# Altium footprint library LIB-pcb.PcbLib: 8 footprints
Each footprint in its own frame and in the unit in brackets; x right, y up, seen from the top. Pads: shape width x height; smd on the part's side, far side on the other; paste and mask are expansions set on the pad; w line width, h text height; cw(c..) or ccw(c..) is an arc to the next point about the centre after c.
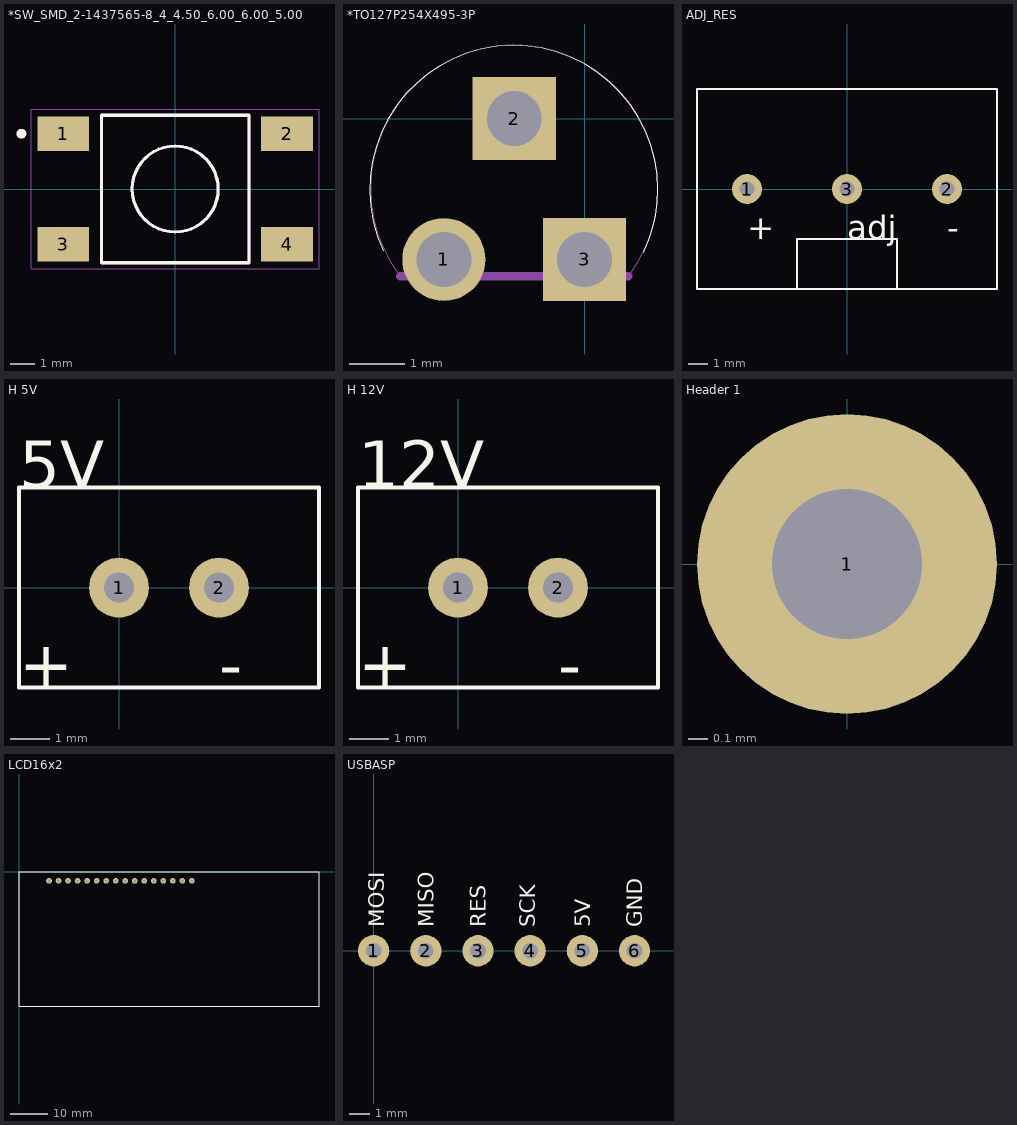
[diagram p0: the footprints below, top view; thin cyan lines are the x and y axes]

## *SW_SMD_2-1437565-8_4_4.50_6.00_6.00_5.00 [mm]
pads (4):
  rect 2.1x1.4 smd: 1(-4.55,2.25) 2(4.55,2.25) 3(-4.55,-2.25) 4(4.55,-2.25)
Top Overlay:
  circle w0.2: c-6.25,2.25 r0.1
  circle w0.127: c0,0 r1.75
  lines w0.127: -3,-3 3,-3 3,3 -3,3 -3,-3
Mechanical 4:
  circle w0.127: c0,0 r1.75
  circle w0.127: c0,0 r1.75
  lines w0.127: -3,-3 -3,3 ; -3,-3 3,-3 ; -3,-3 -3,3 ; -3,-3 3,-3 ; -3,3 3,3 ; -3,3 3,3 ; 3,-3 3,3 ; 3,-3 3,3
Mechanical 16:
  lines w0.05: -5.85,-3.25 -5.85,3.25 5.85,3.25 5.85,-3.25 -5.85,-3.25

## *TO127P254X495-3P [mil]
pads (3):
  round 59 hole 39: 1(-100,-100)
  rect 59x59 hole 39: 2(-50,0) 3(0,-100)
Top Overlay:
  lines w0: -143.16,-93.65 cw(c-50.38,-50.38) 52,-50.38 ; 42.02,-94.95 ccw(c-54.49,-49.95) 52,-49.95
Mechanical 4:
  lines w0: -131.54,-111.29 cw(c-50,-49.85) 31.54,-111.29 ccw(c-50,-49.85) -131.54,-111.29
  lines w6: -131,-112 31,-112 -131,-112

## ADJ_RES [mil] "Promenljivi Otpornik"
pads (3):
  round 60 hole 30: 1(-200,0) 2(200,0) 3(0,0)
Top Overlay:
  lines w3.94: -100,-200 -100,-100 100,-100 100,-200 ; -300,-200 300,-200 300,200 -300,200 -300,-200
  text "adj" at 0,-100 h47.24
  text "-" at 200,-100 h47.24
  text "+" at -200,-100 h47.24

## H 5V [mil] "prikljucak 5 volti"
pads (2):
  round 60 hole 30: 1(0,0) 2(100,0)
Top Overlay:
  lines w3.94: -100,-100 -100,100 200,100 200,-100 -100,-100
  text "5V" at -100,100 h47.24
  text "+" at -100,-100 h47.24
  text "-" at 100,-100 h47.24

## H 12V [mil] "prikljucak 12V"
pads (2):
  round 60 hole 30: 1(0,0) 2(100,0)
Top Overlay:
  lines w3.94: -100,-100 -100,100 200,100 200,-100 -100,-100
  text "12V" at -100,100 h47.24
  text "+" at -100,-100 h47.24
  text "-" at 100,-100 h47.24

## Header 1 [mil]
pads (1):
  round 60 hole 30: 1(0,0)

## LCD16x2 [mil] "LCD16x2"
pads (16):
  round 60 hole 30: 1(314.96,-98.43) 2(414.96,-98.43) 3(514.96,-98.43) 4(614.96,-98.43) 5(714.96,-98.43) 6(814.96,-98.43) 7(914.96,-98.43) 8(1014.96,-98.43) 9(1114.96,-98.43) 10(1214.96,-98.43) 11(1314.96,-98.43) 12(1414.96,-98.43) 13(1514.96,-98.43) 14(1614.96,-98.43) 15(1714.96,-98.43) 16(1814.96,-98.43)
Top Overlay:
  lines w3.94: 0,-1417.32 3149.61,-1417.32 3149.61,0 0,0 0,-1417.32

## USBASP [mil]
pads (6):
  round 60 hole 30: 1(0,0) 2(100,0) 3(200,0) 4(300,0) 5(400,0) 6(500,0)
Top Overlay:
  text "MOSI" at 20,45 h30
  text "MISO" at 115,45 h30
  text "RES" at 215,45 h30
  text "SCK" at 310,45 h30
  text "5V" at 415,45 h30
  text "GND" at 515,45 h30